# Altium footprint library Sheye-Connector.PcbLib: 137 footprints (part 2 of 9)
Each footprint in its own frame and in the unit in brackets; x right, y up, seen from the top. Pads: shape width x height; smd on the part's side, far side on the other; paste and mask are expansions set on the pad; w line width, h text height; cw(c..) or ccw(c..) is an arc to the next point about the centre after c.
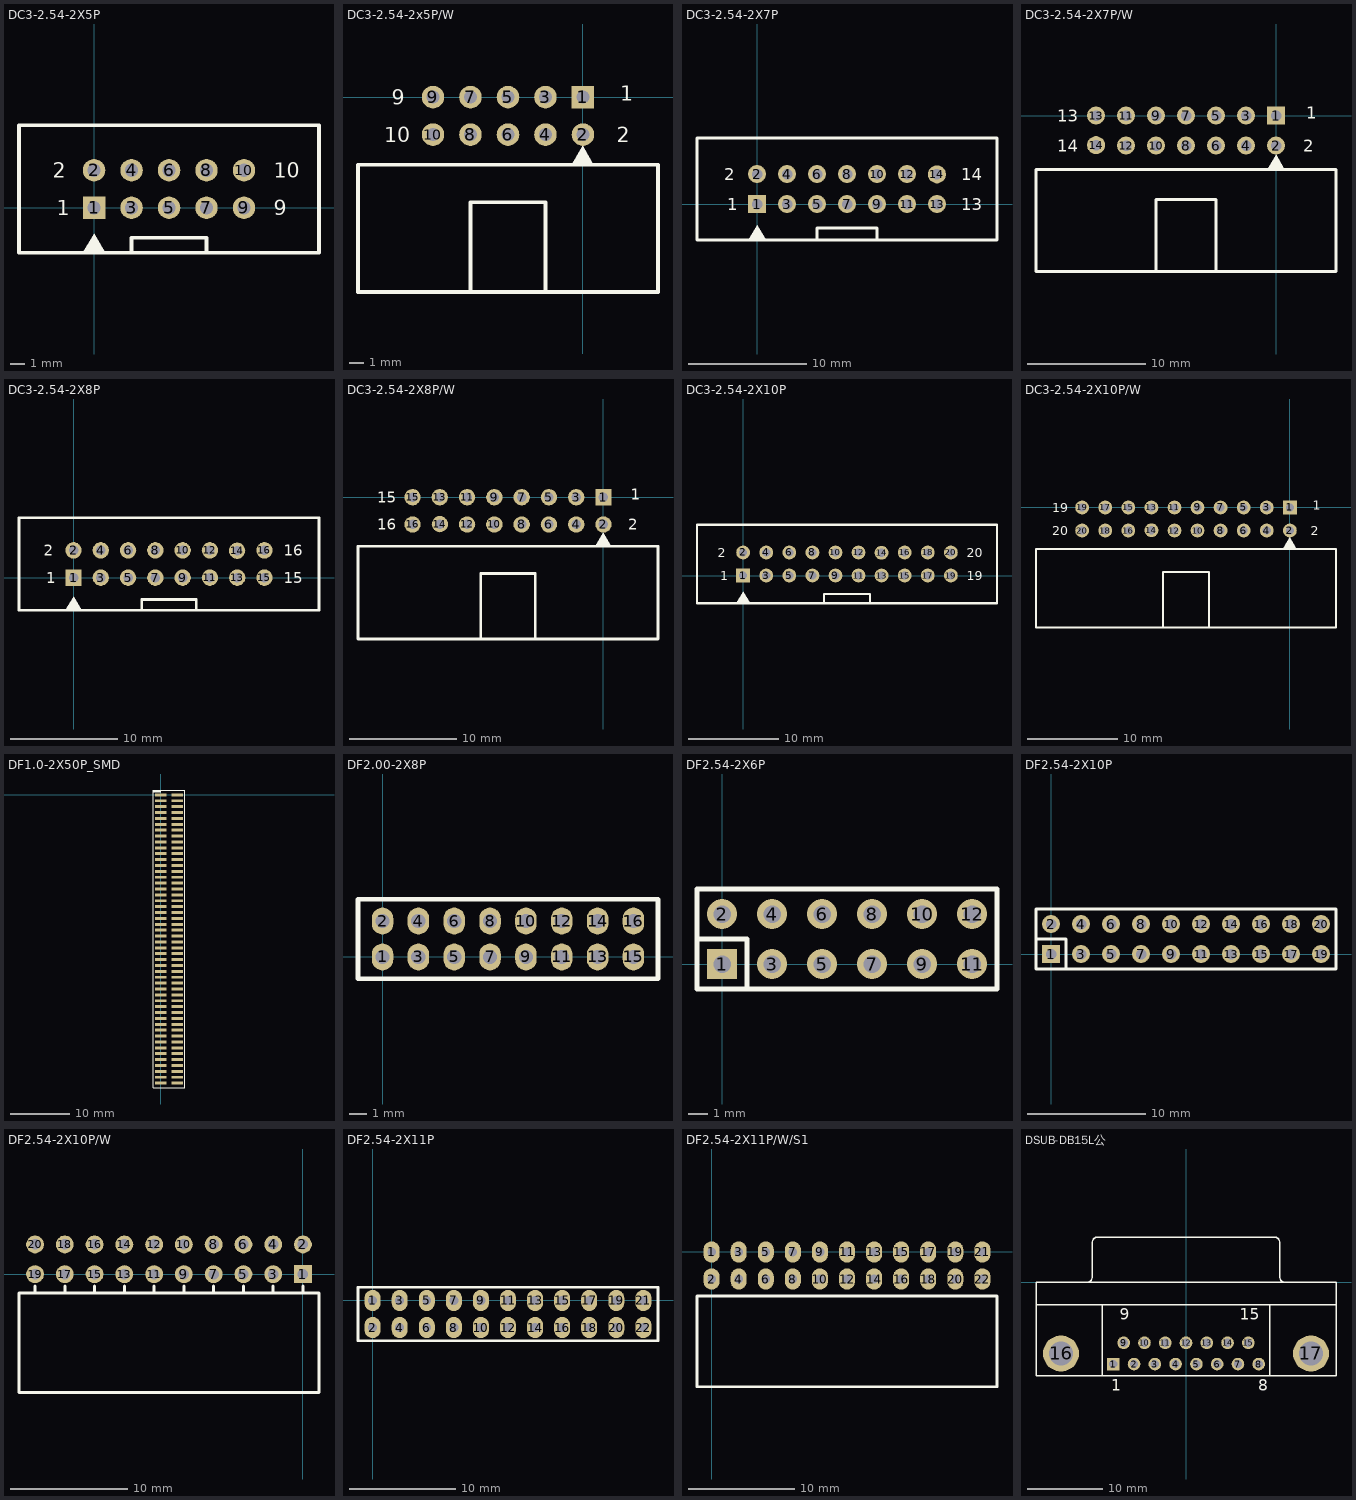
[diagram p1: the footprints below, top view; thin cyan lines are the x and y axes]

## DC3-2.54-2X5P [mil] "DC3-2.54-2x5P直脚"
pads (10):
  rect 60x60 hole 35: 1(0,0)
  round 60 hole 35: 2(0,100) 3(100,0) 4(100,100) 5(200,0) 6(200,100) 7(300,0) 8(300,100) 9(400,0) 10(400,100)
Top Overlay:
  region: -30,-120 30,-120 0,-70
  lines w10: 100,-120 100,-80 300,-80 300,-120 ; -200,-120 600,-120 600,220 -200,220 -200,-120
  text "10" at 480,80 h40
  text "1" at -100,-20 h40
  text "9" at 480,-20 h40
  text "2" at -110,80 h40

## DC3-2.54-2x5P/W [mil] "DC3-2.54-2x5P弯脚"
pads (10):
  rect 60x60 hole 35: 1(0,0)
  round 60 hole 35: 2(0,-100) 3(-100,0) 4(-100,-100) 5(-200,0) 6(-200,-100) 7(-300,0) 8(-300,-100) 9(-400,0) 10(-400,-100)
Top Overlay:
  region: -30,-180 25,-175 0,-130
  lines w10: -300,-520 -300,-280 -100,-280 -100,-520 ; -600,-520 200,-520 200,-180 -600,-180 -600,-520
  text "10" at -530,-120 h40
  text "1" at 100,-10 h40
  text "2" at 90,-120 h40
  text "9" at -510,-20 h40

## DC3-2.54-2X7P [mil] "DC3-2.54-2x7P直脚"
pads (14):
  rect 60x60 hole 35: 1(0,0)
  round 60 hole 35: 2(0,100) 3(100,0) 4(100,100) 5(200,0) 6(200,100) 7(300,0) 8(300,100) 9(400,0) 10(400,100) 11(500,0) 12(500,100) 13(600,0) 14(599.75,98.75)
Top Overlay:
  region: -30,-120 30,-120 0,-70
  lines w10: 200,-120 200,-80 400,-80 400,-120 ; -200,-120 -200,220 800,220 800,-120 -200,-120
  text "2" at -110,80 h40
  text "13" at 680,-20 h40
  text "1" at -100,-20 h40
  text "14" at 680,80 h40

## DC3-2.54-2X7P/W [mil] "DC3-2.54-2x7P弯脚"
pads (14):
  rect 60x60 hole 35: 1(0,0)
  round 60 hole 35: 2(0,-100) 3(-100,0) 4(-100,-100) 5(-200,0) 6(-200,-100) 7(-300,0) 8(-300,-100) 9(-400,0) 10(-400,-100) 11(-500,0) 12(-500,-100) 13(-600,0) 14(-599.75,-98.75)
Top Overlay:
  region: -30,-180 25,-175 0,-130
  lines w10: -400,-520 -400,-280 -200,-280 -200,-520 ; -800,-520 -800,-180 200,-180 200,-520 -800,-520
  text "13" at -730,-20 h40
  text "2" at 90,-120 h40
  text "1" at 100,-10 h40
  text "14" at -730,-120 h40

## DC3-2.54-2X8P [mil] "DC3-2.54-2x8P直脚"
pads (16):
  rect 60x60 hole 35: 1(0,0)
  round 60 hole 35: 2(0,100) 3(100,0) 4(100,100) 5(200,0) 6(200,100) 7(300,0) 8(300,100) 9(400,0) 10(400,100) 11(500,0) 12(500,100) 13(600,0) 14(599.75,98.75) 15(700,0) 16(700,100)
Top Overlay:
  region: -30,-120 30,-120 0,-70
  lines w10: 250,-120 250,-80 450,-80 450,-120 ; -200,-120 -200,220 900,220 900,-120 -200,-120
  text "2" at -110,80 h40
  text "15" at 770,-20 h40
  text "1" at -100,-20 h40
  text "16" at 770,80 h40

## DC3-2.54-2X8P/W [mil] "DC3-2.54-2x8P弯脚"
pads (16):
  rect 60x60 hole 35: 1(0,0)
  round 60 hole 35: 2(0,-100) 3(-100,0) 4(-100,-100) 5(-200,0) 6(-200,-100) 7(-300,0) 8(-300,-100) 9(-400,0) 10(-400,-100) 11(-500,0) 12(-500,-100) 13(-600,0) 14(-599.75,-98.75) 15(-700,0) 16(-700,-100)
Top Overlay:
  region: -30,-180 25,-175 0,-130
  lines w10: -450,-520 -450,-280 -250,-280 -250,-520 ; -900,-520 200,-520 200,-180 -900,-180 -900,-520
  text "16" at -830,-120 h40
  text "1" at 100,-10 h40
  text "2" at 90,-120 h40
  text "15" at -830,-20 h40

## DC3-2.54-2X10P [mil] "DC3-2.54-2x10P直脚"
pads (20):
  rect 60x60 hole 35: 1(0,0)
  round 60 hole 35: 2(0,100) 3(100,0) 4(100,100) 5(200,0) 6(200,100) 7(300,0) 8(300,100) 9(400,0) 10(400,100) 11(500,0) 12(500,100) 13(600,0) 14(599.75,98.75) 15(700,0) 16(700,100) 17(800,0) 18(800,100) 19(900,0) 20(900,100)
Top Overlay:
  region: -30,-120 30,-120 0,-70
  lines w10: 350,-120 350,-80 550,-80 550,-120 ; -200,-120 1100,-120 1100,220 -200,220 -200,-120
  text "20" at 970,80 h40
  text "1" at -100,-20 h40
  text "19" at 970,-20 h40
  text "2" at -110,80 h40

## DC3-2.54-2X10P/W [mil] "DC3-2.54-2x10P弯脚"
pads (20):
  rect 60x60 hole 35: 1(0,0)
  round 60 hole 35: 2(0,-100) 3(-100,0) 4(-100,-100) 5(-200,0) 6(-200,-100) 7(-300,0) 8(-300,-100) 9(-400,0) 10(-400,-100) 11(-500,0) 12(-500,-100) 13(-600,0) 14(-599.75,-98.75) 15(-700,0) 16(-700,-100) 17(-800,0) 18(-800,-100) 19(-900,0) 20(-900,-100)
Top Overlay:
  region: -30,-180 25,-175 0,-130
  lines w10: -550,-520 -550,-280 -350,-280 -350,-520 ; -1100,-520 200,-520 200,-180 -1100,-180 -1100,-520
  text "20" at -1030,-120 h40
  text "1" at 100,-10 h40
  text "2" at 90,-120 h40
  text "19" at -1030,-20 h40

## DF1.0-2X50P_SMD [mm]
pads (100):
  rect 2x0.5 smd paste+0: 1(0,0) 2(2.8,0) 3(0,-1) 4(2.8,-1) 5(0,-2) 6(2.8,-2) 7(0,-3) 8(2.8,-3) 9(0,-4) 10(2.8,-4) 11(0,-5) 12(2.8,-5) 13(0,-6) 14(2.8,-6) 15(0,-7) 16(2.8,-7) 17(0,-8) 18(2.8,-8) 19(0,-9) 20(2.8,-9) 21(0,-10) 22(2.8,-10) 23(0,-11) 24(2.8,-11) 25(0,-12) 26(2.8,-12) 27(0,-13) 28(2.8,-13) 29(0,-14) 30(2.8,-14) 31(0,-15) 32(2.8,-15) 33(0,-16) 34(2.8,-16) 35(0,-17) 36(2.8,-17) 37(0,-18) 38(2.8,-18) 39(0,-19) 40(2.8,-19) 41(0,-20) 42(2.8,-20) 43(0,-21) 44(2.8,-21) 45(0,-22) 46(2.8,-22) 47(0,-23) 48(2.8,-23) 49(0,-24) 50(2.8,-24) 51(0,-25) 52(2.8,-25) 53(0,-26) 54(2.8,-26) 55(0,-27) 56(2.8,-27) 57(0,-28) 58(2.8,-28) 59(0,-29) 60(2.8,-29) 61(0,-30) 62(2.8,-30) 63(0,-31) 64(2.8,-31) 65(0,-32) 66(2.8,-32) 67(0,-33) 68(2.8,-33) 69(0,-34) 70(2.8,-34) 71(0,-35) 72(2.8,-35) 73(0,-36) 74(2.8,-36) 75(0,-37) 76(2.8,-37) 77(0,-38) 78(2.8,-38) 79(0,-39) 80(2.8,-39) 81(0,-40) 82(2.8,-40) 83(0,-41) 84(2.8,-41) 85(0,-42) 86(2.8,-42) 87(0,-43) 88(2.8,-43) 89(0,-44) 90(2.8,-44) 91(0,-45) 92(2.8,-45) 93(0,-46) 94(2.8,-46) 95(0,-47) 96(2.8,-47) 97(0,-48) 98(2.8,-48) 99(0,-49) 100(2.8,-49)
Top Overlay:
  rectangle: -1.27,0.381 0,0.762
  lines w0.203: -1.27,-49.784 -1.27,0.762 4.064,0.762 4.064,-49.784 -1.27,-49.784
Drill Drawing:
  circle w0.025: c1.4,-0.5 r0.3
  circle w0.025: c1.4,-48.5 r0.3

## DF2.00-2X8P [mm] "DUAL_ROW_FEMALE_D2.00-8P"
height 4
pads (16):
  oval 1.2x1.5 hole 0.8: 1(0,0)
  oval 1.2x1.5 hole 0.8 mask+0.102: 2(0,2) 3(2,0) 4(2,2) 5(4,0) 6(4,2) 7(6,0) 8(6,2) 9(8,0) 10(8,2) 11(10,0) 12(10,2) 13(12,0) 14(12,2) 15(14,0) 16(14,2)
Top Overlay:
  lines w0.254: -1.37,-1.23 15.37,-1.23 15.37,3.23 -1.37,3.23 -1.37,-1.23
3D body: height 1, standoff -2, extent -0.406,-0.406 0.39,0.392
3D body: height 4, standoff 0, extent -1.27,-1.27 1.27,1.27
3D body: height 1, standoff -2, extent 1.594,-0.406 2.39,0.392
3D body: height 4, standoff 0, extent 0.73,-1.27 3.27,1.27
3D body: height 1, standoff -2, extent 3.594,-0.406 4.39,0.392
3D body: height 4, standoff 0, extent 2.73,-1.27 5.27,1.27
3D body: height 1, standoff -2, extent 5.594,-0.406 6.39,0.392
3D body: height 4, standoff 0, extent 4.73,-1.27 7.27,1.27
3D body: height 1, standoff -2, extent 7.594,-0.406 8.39,0.392
3D body: height 4, standoff 0, extent 6.73,-1.27 9.27,1.27
3D body: height 1, standoff -2, extent 9.594,-0.406 10.39,0.392
3D body: height 4, standoff 0, extent 8.73,-1.27 11.27,1.27
3D body: height 1, standoff -2, extent 11.594,-0.406 12.39,0.392
3D body: height 4, standoff 0, extent 10.73,-1.27 13.27,1.27
3D body: height 1, standoff -2, extent 13.594,-0.406 14.39,0.392
3D body: height 4, standoff 0, extent 12.73,-1.27 15.27,1.27
3D body: height 1, standoff -2, extent -0.406,1.594 0.39,2.392
3D body: height 4, standoff 0, extent -1.27,0.73 1.27,3.27
3D body: height 1, standoff -2, extent 1.594,1.594 2.39,2.392
3D body: height 4, standoff 0, extent 0.73,0.73 3.27,3.27
3D body: height 1, standoff -2, extent 3.594,1.594 4.39,2.392
3D body: height 4, standoff 0, extent 2.73,0.73 5.27,3.27
3D body: height 1, standoff -2, extent 5.594,1.594 6.39,2.392
3D body: height 4, standoff 0, extent 4.73,0.73 7.27,3.27
3D body: height 1, standoff -2, extent 7.594,1.594 8.39,2.392
3D body: height 4, standoff 0, extent 6.73,0.73 9.27,3.27
3D body: height 1, standoff -2, extent 9.594,1.594 10.39,2.392
3D body: height 4, standoff 0, extent 8.73,0.73 11.27,3.27
3D body: height 1, standoff -2, extent 11.594,1.594 12.39,2.392
3D body: height 4, standoff 0, extent 10.73,0.73 13.27,3.27
3D body: height 1, standoff -2, extent 13.594,1.594 14.39,2.392
3D body: height 4, standoff 0, extent 12.73,0.73 15.27,3.27
3D body: height 0.5, standoff 0, extent -1.27,-1.27 15.37,3.23

## DF2.54-2X6P [mil] "DUAL_ROW_FEMALE_R2.54-2X10P"
pads (12):
  rect 60x60 hole 35: 1(0,0)
  round 60 hole 35: 2(0,100) 3(100,0) 4(100,100) 5(200,0) 6(200,100) 7(300,0) 8(300,100) 9(400,0) 10(400,100) 11(500,0) 12(500,100)
Top Overlay:
  lines w10: -50,50 50,50 50,-50 ; -50,-50 550,-50 550,150 -50,150 -50,-50
3D body: height 19.68, standoff 0, extent -50,-50 550,150
3D body: height 334.65, standoff 0, extent 450,50 550,150
3D body: height 334.65, standoff 0, extent 350,50 450,150
3D body: height 334.65, standoff 0, extent 250,50 350,150
3D body: height 334.65, standoff 0, extent 150,50 250,150
3D body: height 334.65, standoff 0, extent 50,50 150,150
3D body: height 334.65, standoff 0, extent -50,50 50,150
3D body: height 334.65, standoff 0, extent 450,-50 550,50
3D body: height 334.65, standoff 0, extent 350,-50 450,50
3D body: height 334.65, standoff 0, extent 250,-50 350,50
3D body: height 334.65, standoff 0, extent 150,-50 250,50
3D body: height 334.65, standoff 0, extent 50,-50 150,50
3D body: height 334.65, standoff 0, extent -50,-50 50,50
3D body: height 39.37, standoff -78.74, extent -16,-16 15.37,15.43
3D body: height 39.37, standoff -78.74, extent -16,84 15.37,115.43
3D body: height 39.37, standoff -78.74, extent 84,84 115.37,115.43
3D body: height 39.37, standoff -78.74, extent 184,84 215.37,115.43
3D body: height 39.37, standoff -78.74, extent 284,84 315.37,115.43
3D body: height 39.37, standoff -78.74, extent 384,84 415.37,115.43
3D body: height 39.37, standoff -78.74, extent 484,84 515.37,115.43
3D body: height 39.37, standoff -78.74, extent 84,-16 115.37,15.43
3D body: height 39.37, standoff -78.74, extent 184,-16 215.37,15.43
3D body: height 39.37, standoff -78.74, extent 284,-16 315.37,15.43
3D body: height 39.37, standoff -78.74, extent 384,-16 415.37,15.43
3D body: height 39.37, standoff -78.74, extent 484,-16 515.37,15.43

## DF2.54-2X10P [mil] "SIP2.54-2x10P直插排母"
pads (20):
  rect 60x60 hole 35: 1(0,0)
  round 60 hole 35: 2(0,100) 3(100,0) 4(100,100) 5(200,0) 6(200,100) 7(300,0) 8(300,100) 9(400,0) 10(400,100) 11(500,0) 12(500,100) 13(600,0) 14(600,100) 15(700,0) 16(700,100) 17(800,0) 18(800,100) 19(900,0) 20(900,100)
Top Overlay:
  lines w10: -50,50 50,50 50,-50 ; -50,-50 -50,150 950,150 950,-50 -50,-50
3D body: height 19.68, standoff 0, extent -50,-50 950,150
3D body: height 334.65, standoff 0, extent 850,50 950,150
3D body: height 39.37, standoff -78.74, extent 884,84 915.37,115.43
3D body: height 334.65, standoff 0, extent 750,50 850,150
3D body: height 39.37, standoff -78.74, extent 784,84 815.37,115.43
3D body: height 334.65, standoff 0, extent 650,50 750,150
3D body: height 39.37, standoff -78.74, extent 684,84 715.37,115.43
3D body: height 334.65, standoff 0, extent 550,50 650,150
3D body: height 39.37, standoff -78.74, extent 584,84 615.37,115.43
3D body: height 334.65, standoff 0, extent 450,50 550,150
3D body: height 39.37, standoff -78.74, extent 484,84 515.37,115.43
3D body: height 334.65, standoff 0, extent 350,50 450,150
3D body: height 39.37, standoff -78.74, extent 384,84 415.37,115.43
3D body: height 334.65, standoff 0, extent 250,50 350,150
3D body: height 39.37, standoff -78.74, extent 284,84 315.37,115.43
3D body: height 334.65, standoff 0, extent 150,50 250,150
3D body: height 39.37, standoff -78.74, extent 184,84 215.37,115.43
3D body: height 334.65, standoff 0, extent 50,50 150,150
3D body: height 39.37, standoff -78.74, extent 84,84 115.37,115.43
3D body: height 334.65, standoff 0, extent -50,50 50,150
3D body: height 39.37, standoff -78.74, extent -16,84 15.37,115.43
3D body: height 334.65, standoff 0, extent 850,-50 950,50
3D body: height 39.37, standoff -78.74, extent 884,-16 915.37,15.43
3D body: height 334.65, standoff 0, extent 750,-50 850,50
3D body: height 39.37, standoff -78.74, extent 784,-16 815.37,15.43
3D body: height 334.65, standoff 0, extent 650,-50 750,50
3D body: height 39.37, standoff -78.74, extent 684,-16 715.37,15.43
3D body: height 334.65, standoff 0, extent 550,-50 650,50
3D body: height 39.37, standoff -78.74, extent 584,-16 615.37,15.43
3D body: height 334.65, standoff 0, extent 450,-50 550,50
3D body: height 39.37, standoff -78.74, extent 484,-16 515.37,15.43
3D body: height 334.65, standoff 0, extent 350,-50 450,50
3D body: height 39.37, standoff -78.74, extent 384,-16 415.37,15.43
3D body: height 334.65, standoff 0, extent 250,-50 350,50
3D body: height 39.37, standoff -78.74, extent 284,-16 315.37,15.43
3D body: height 334.65, standoff 0, extent 150,-50 250,50
3D body: height 39.37, standoff -78.74, extent 184,-16 215.37,15.43
3D body: height 334.65, standoff 0, extent 50,-50 150,50
3D body: height 39.37, standoff -78.74, extent 84,-16 115.37,15.43
3D body: height 334.65, standoff 0, extent -50,-50 50,50
3D body: height 39.37, standoff -78.74, extent -16,-16 15.37,15.43

## DF2.54-2X10P/W [mil] "DUAL_ROW_FEMALE_R2.54-2X10P"
pads (20):
  rect 60x60 hole 35: 1(0,0)
  round 60 hole 35: 2(0,100) 3(-100,0) 4(-100,100) 5(-200,0) 6(-200,100) 7(-300,0) 8(-300,100) 9(-400,0) 10(-400,100) 11(-500,0) 12(-500,100) 13(-600,0) 14(-600,100) 15(-700,0) 16(-700,100) 17(-800,0) 18(-800,100) 19(-900,0) 20(-900,100)
Top Overlay:
  lines w10: -900,-62.99 -900,-40 ; -800,-62.99 -800,-40 ; -700,-62.99 -700,-40 ; -600,-62.99 -600,-40 ; -500,-62.99 -500,-40 ; -400,-62.99 -400,-40 ; -300,-62.99 -300,-40 ; -200,-62.99 -200,-40 ; -100,-62.99 -100,-40 ; 0,-62.99 0,-40 ; -953.94,-397.64 -953.94,-62.99 53.94,-62.99 53.94,-397.64 -953.94,-397.64
3D body: height 120, standoff 80, extent -950,-400 50,-60
3D body: height 20, standoff 0, extent -950,-400 50,-60
3D body: height 200, standoff 180, extent -950,-400 50,-60
3D body: height 200, standoff 0, extent 30,-400 50,-60
3D body: height 200, standoff 0, extent -50,-400 -30,-60
3D body: height 200, standoff 0, extent -950,-80 50,-60
3D body: height 200, standoff 0, extent -950,-400 -930,-60
3D body: height 200, standoff 0, extent -870,-400 -850,-60
3D body: height 200, standoff 0, extent -850,-400 -830,-60
3D body: height 200, standoff 0, extent -770,-400 -750,-60
3D body: height 200, standoff 0, extent -750,-400 -730,-60
3D body: height 200, standoff 0, extent -670,-400 -650,-60
3D body: height 200, standoff 0, extent -650,-400 -630,-60
3D body: height 200, standoff 0, extent -570,-400 -550,-60
3D body: height 200, standoff 0, extent -550,-400 -530,-60
3D body: height 200, standoff 0, extent -470,-400 -450,-60
3D body: height 200, standoff 0, extent -450,-400 -430,-60
3D body: height 200, standoff 0, extent -370,-400 -350,-60
3D body: height 200, standoff 0, extent -350,-400 -330,-60
3D body: height 200, standoff 0, extent -270,-400 -250,-60
3D body: height 200, standoff 0, extent -250,-400 -230,-60
3D body: height 200, standoff 0, extent -170,-400 -150,-60
3D body: height 200, standoff 0, extent -150,-400 -130,-60
3D body: height 200, standoff 0, extent -70,-400 -50,-60
3D body: height 169.56, standoff 138.19, extent -915.72,-82.28 -884.28,100
3D body: height 153.94, standoff -78.74, extent -915.65,84.28 -884.28,115.72
3D body: height 69.56, standoff 38.19, extent -915.72,-100 -884.28,0
3D body: height 53.94, standoff -78.74, extent -915.65,-15.72 -884.28,15.72
3D body: height 53.94, standoff -78.74, extent -815.65,-15.72 -784.28,15.72
3D body: height 153.94, standoff -78.74, extent -815.65,84.28 -784.28,115.72
3D body: height 169.56, standoff 138.19, extent -815.72,-82.28 -784.28,100
3D body: height 53.94, standoff -78.74, extent -715.65,-15.72 -684.28,15.72
3D body: height 153.94, standoff -78.74, extent -715.65,84.28 -684.28,115.72
3D body: height 169.56, standoff 138.19, extent -715.72,-82.28 -684.28,100
3D body: height 53.94, standoff -78.74, extent -615.65,-15.72 -584.28,15.72
3D body: height 153.94, standoff -78.74, extent -615.65,84.28 -584.28,115.72
3D body: height 169.56, standoff 138.19, extent -615.72,-82.28 -584.28,100
3D body: height 53.94, standoff -78.74, extent -515.65,-15.72 -484.28,15.72
3D body: height 153.94, standoff -78.74, extent -515.65,84.28 -484.28,115.72
3D body: height 169.56, standoff 138.19, extent -515.72,-82.28 -484.28,100
3D body: height 53.94, standoff -78.74, extent -415.65,-15.72 -384.28,15.72
3D body: height 153.94, standoff -78.74, extent -415.65,84.28 -384.28,115.72
3D body: height 169.56, standoff 138.19, extent -415.72,-82.28 -384.28,100
3D body: height 53.94, standoff -78.74, extent -315.65,-15.72 -284.28,15.72
3D body: height 153.94, standoff -78.74, extent -315.65,84.28 -284.28,115.72
3D body: height 169.56, standoff 138.19, extent -315.72,-82.28 -284.28,100
3D body: height 53.94, standoff -78.74, extent -215.65,-15.72 -184.28,15.72
3D body: height 153.94, standoff -78.74, extent -215.65,84.28 -184.28,115.72
3D body: height 169.56, standoff 138.19, extent -215.72,-82.28 -184.28,100
3D body: height 53.94, standoff -78.74, extent -115.65,-15.72 -84.28,15.72
3D body: height 153.94, standoff -78.74, extent -115.65,84.28 -84.28,115.72
3D body: height 169.56, standoff 138.19, extent -115.72,-82.28 -84.28,100
3D body: height 53.94, standoff -78.74, extent -15.65,-15.72 15.72,15.72
3D body: height 153.94, standoff -78.74, extent -15.65,84.28 15.72,115.72
3D body: height 169.56, standoff 138.19, extent -15.72,-82.28 15.72,100
3D body: height 69.56, standoff 38.19, extent -815.72,-100 -784.28,0
3D body: height 69.56, standoff 38.19, extent -715.72,-100 -684.28,0
3D body: height 69.56, standoff 38.19, extent -615.72,-100 -584.28,0
3D body: height 69.56, standoff 38.19, extent -515.72,-100 -484.28,0
3D body: height 69.56, standoff 38.19, extent -415.72,-100 -384.28,0
3D body: height 69.56, standoff 38.19, extent -315.72,-100 -284.28,0
3D body: height 69.56, standoff 38.19, extent -215.72,-100 -184.28,0
3D body: height 69.56, standoff 38.19, extent -115.72,-100 -84.28,0
3D body: height 69.56, standoff 38.19, extent -15.72,-100 15.72,0

## DF2.54-2X11P [mm] "DUAL_ROW_FEMALE_D2.54-11P"
pads (22):
  oval 1.5x2 hole 0.838: 1(0,0) 2(0,-2.54) 3(2.54,0) 4(2.54,-2.54) 5(5.08,0) 6(5.08,-2.54) 7(7.62,0) 8(7.62,-2.54) 9(10.16,0) 10(10.16,-2.54) 11(12.7,0) 12(12.7,-2.54) 13(15.24,0) 14(15.24,-2.54) 15(17.78,0) 16(17.78,-2.54) 17(20.32,0) 18(20.32,-2.54) 19(22.86,0) 20(22.86,-2.54) 21(25.4,0) 22(25.4,-2.54)
Top Overlay:
  lines w0.254: -1.37,-3.77 -1.37,1.23 26.77,1.23 26.77,-3.77 -1.37,-3.77
3D body: height 1, standoff -2, extent 24.994,-2.946 25.79,-2.148
3D body: height 8.5, standoff 0, extent 24.13,-3.81 26.67,-1.27
3D body: height 1, standoff -2, extent 24.994,-0.406 25.79,0.392
3D body: height 8.5, standoff 0, extent 24.13,-1.27 26.67,1.27
3D body: height 0.5, standoff 0, extent -1.27,-3.81 26.67,1.27
3D body: height 8.5, standoff 0, extent 21.59,-1.27 24.13,1.27
3D body: height 1, standoff -2, extent 22.454,-0.406 23.25,0.392
3D body: height 8.5, standoff 0, extent 19.05,-1.27 21.59,1.27
3D body: height 1, standoff -2, extent 19.914,-0.406 20.71,0.392
3D body: height 8.5, standoff 0, extent 16.51,-1.27 19.05,1.27
3D body: height 1, standoff -2, extent 17.374,-0.406 18.17,0.392
3D body: height 8.5, standoff 0, extent 13.97,-1.27 16.51,1.27
3D body: height 1, standoff -2, extent 14.834,-0.406 15.63,0.392
3D body: height 8.5, standoff 0, extent 11.43,-1.27 13.97,1.27
3D body: height 1, standoff -2, extent 12.294,-0.406 13.09,0.392
3D body: height 8.5, standoff 0, extent 8.89,-1.27 11.43,1.27
3D body: height 1, standoff -2, extent 9.754,-0.406 10.55,0.392
3D body: height 8.5, standoff 0, extent 6.35,-1.27 8.89,1.27
3D body: height 1, standoff -2, extent 7.214,-0.406 8.01,0.392
3D body: height 8.5, standoff 0, extent 3.81,-1.27 6.35,1.27
3D body: height 1, standoff -2, extent 4.674,-0.406 5.47,0.392
3D body: height 8.5, standoff 0, extent 1.27,-1.27 3.81,1.27
3D body: height 1, standoff -2, extent 2.134,-0.406 2.93,0.392
3D body: height 8.5, standoff 0, extent -1.27,-1.27 1.27,1.27
3D body: height 1, standoff -2, extent -0.406,-0.406 0.39,0.392
3D body: height 8.5, standoff 0, extent 21.59,-3.81 24.13,-1.27
3D body: height 1, standoff -2, extent 22.454,-2.946 23.25,-2.148
3D body: height 8.5, standoff 0, extent 19.05,-3.81 21.59,-1.27
3D body: height 1, standoff -2, extent 19.914,-2.946 20.71,-2.148
3D body: height 8.5, standoff 0, extent 16.51,-3.81 19.05,-1.27
3D body: height 1, standoff -2, extent 17.374,-2.946 18.17,-2.148
3D body: height 8.5, standoff 0, extent 13.97,-3.81 16.51,-1.27
3D body: height 1, standoff -2, extent 14.834,-2.946 15.63,-2.148
3D body: height 8.5, standoff 0, extent 11.43,-3.81 13.97,-1.27
3D body: height 1, standoff -2, extent 12.294,-2.946 13.09,-2.148
3D body: height 8.5, standoff 0, extent 8.89,-3.81 11.43,-1.27
3D body: height 1, standoff -2, extent 9.754,-2.946 10.55,-2.148
3D body: height 8.5, standoff 0, extent 6.35,-3.81 8.89,-1.27
3D body: height 1, standoff -2, extent 7.214,-2.946 8.01,-2.148
3D body: height 8.5, standoff 0, extent 3.81,-3.81 6.35,-1.27
3D body: height 1, standoff -2, extent 4.674,-2.946 5.47,-2.148
3D body: height 8.5, standoff 0, extent 1.27,-3.81 3.81,-1.27
3D body: height 1, standoff -2, extent 2.134,-2.946 2.93,-2.148
3D body: height 8.5, standoff 0, extent -1.27,-3.81 1.27,-1.27
3D body: height 1, standoff -2, extent -0.406,-2.946 0.39,-2.148

## DF2.54-2X11P/W/S1 [mm] "DUAL_ROW_FEMALE_R2.54-11P"
pads (22):
  oval 1.5x2 hole 0.813: 1(0,0) 2(0,-2.54) 3(2.54,0) 4(2.54,-2.54) 5(5.08,0) 6(5.08,-2.54) 7(7.62,0) 8(7.62,-2.54) 9(10.16,0) 10(10.16,-2.54) 11(12.7,0) 12(12.7,-2.54) 13(15.24,0) 14(15.24,-2.54) 15(17.78,0) 16(17.78,-2.54) 17(20.32,0) 18(20.32,-2.54) 19(22.86,0) 20(22.86,-2.54) 21(25.4,0) 22(25.4,-2.54)
Top Overlay:
  lines w0.254: -1.37,-12.64 26.77,-12.64 26.77,-4.14 -1.37,-4.14 -1.37,-12.64
3D body: height 1.77, standoff 0.97, extent 25.001,-5.08 25.799,-2.54
3D body: height 4.31, standoff 3.51, extent 25.001,-4.63 25.799,0
3D body: height 3.91, standoff -2, extent 25.002,-0.399 25.799,0.399
3D body: height 1.37, standoff -2, extent 25.002,-2.939 25.799,-2.141
3D body: height 5.08, standoff 0, extent 24.13,-12.7 24.638,-4.064
3D body: height 5.08, standoff 0, extent 26.162,-12.7 26.67,-4.064
3D body: height 3.05, standoff 2.03, extent -1.27,-12.7 26.67,-4.064
3D body: height 0.51, standoff 0, extent -1.27,-12.7 26.67,-4.064
3D body: height 5.08, standoff 4.57, extent -1.27,-12.7 26.67,-4.064
3D body: height 5.08, standoff 0, extent 23.622,-12.7 24.13,-4.064
3D body: height 5.08, standoff 0, extent 21.59,-12.7 22.098,-4.064
3D body: height 5.08, standoff 0, extent -1.27,-4.572 26.67,-4.064
3D body: height 5.08, standoff 0, extent -1.27,-12.7 -0.762,-4.064
3D body: height 5.08, standoff 0, extent 0.762,-12.7 1.27,-4.064
3D body: height 5.08, standoff 0, extent 1.27,-12.7 1.778,-4.064
3D body: height 5.08, standoff 0, extent 3.302,-12.7 3.81,-4.064
3D body: height 5.08, standoff 0, extent 3.81,-12.7 4.318,-4.064
3D body: height 5.08, standoff 0, extent 5.842,-12.7 6.35,-4.064
3D body: height 5.08, standoff 0, extent 6.35,-12.7 6.858,-4.064
3D body: height 5.08, standoff 0, extent 8.382,-12.7 8.89,-4.064
3D body: height 5.08, standoff 0, extent 8.89,-12.7 9.398,-4.064
3D body: height 5.08, standoff 0, extent 10.922,-12.7 11.43,-4.064
3D body: height 5.08, standoff 0, extent 11.43,-12.7 11.938,-4.064
3D body: height 5.08, standoff 0, extent 13.462,-12.7 13.97,-4.064
3D body: height 5.08, standoff 0, extent 13.97,-12.7 14.478,-4.064
3D body: height 5.08, standoff 0, extent 16.002,-12.7 16.51,-4.064
3D body: height 5.08, standoff 0, extent 16.51,-12.7 17.018,-4.064
3D body: height 5.08, standoff 0, extent 18.542,-12.7 19.05,-4.064
3D body: height 5.08, standoff 0, extent 19.05,-12.7 19.558,-4.064
3D body: height 5.08, standoff 0, extent 21.082,-12.7 21.59,-4.064
3D body: height 4.31, standoff 3.51, extent -0.399,-4.63 0.399,0
3D body: height 3.91, standoff -2, extent -0.398,-0.399 0.399,0.399
3D body: height 1.77, standoff 0.97, extent -0.399,-5.08 0.399,-2.54
3D body: height 1.37, standoff -2, extent -0.398,-2.939 0.399,-2.141
3D body: height 1.37, standoff -2, extent 2.142,-2.939 2.939,-2.141
3D body: height 3.91, standoff -2, extent 2.142,-0.399 2.939,0.399
3D body: height 4.31, standoff 3.51, extent 2.141,-4.63 2.939,0
3D body: height 1.37, standoff -2, extent 4.682,-2.939 5.479,-2.141
3D body: height 3.91, standoff -2, extent 4.682,-0.399 5.479,0.399
3D body: height 4.31, standoff 3.51, extent 4.681,-4.63 5.479,0
3D body: height 1.37, standoff -2, extent 7.222,-2.939 8.019,-2.141
3D body: height 3.91, standoff -2, extent 7.222,-0.399 8.019,0.399
3D body: height 4.31, standoff 3.51, extent 7.221,-4.63 8.019,0
3D body: height 1.37, standoff -2, extent 9.762,-2.939 10.559,-2.141
3D body: height 3.91, standoff -2, extent 9.762,-0.399 10.559,0.399
3D body: height 4.31, standoff 3.51, extent 9.761,-4.63 10.559,0
3D body: height 1.37, standoff -2, extent 12.302,-2.939 13.099,-2.141
3D body: height 3.91, standoff -2, extent 12.302,-0.399 13.099,0.399
3D body: height 4.31, standoff 3.51, extent 12.301,-4.63 13.099,0
3D body: height 1.37, standoff -2, extent 14.842,-2.939 15.639,-2.141
3D body: height 3.91, standoff -2, extent 14.842,-0.399 15.639,0.399
3D body: height 4.31, standoff 3.51, extent 14.841,-4.63 15.639,0
3D body: height 1.37, standoff -2, extent 17.382,-2.939 18.179,-2.141
3D body: height 3.91, standoff -2, extent 17.382,-0.399 18.179,0.399
3D body: height 4.31, standoff 3.51, extent 17.381,-4.63 18.179,0
3D body: height 1.37, standoff -2, extent 19.922,-2.939 20.719,-2.141
3D body: height 3.91, standoff -2, extent 19.922,-0.399 20.719,0.399
3D body: height 4.31, standoff 3.51, extent 19.921,-4.63 20.719,0
3D body: height 1.37, standoff -2, extent 22.462,-2.939 23.259,-2.141
3D body: height 3.91, standoff -2, extent 22.462,-0.399 23.259,0.399
3D body: height 4.31, standoff 3.51, extent 22.461,-4.63 23.259,0
3D body: height 1.77, standoff 0.97, extent 2.141,-5.08 2.939,-2.54
3D body: height 1.77, standoff 0.97, extent 4.681,-5.08 5.479,-2.54
3D body: height 1.77, standoff 0.97, extent 7.221,-5.08 8.019,-2.54
3D body: height 1.77, standoff 0.97, extent 9.761,-5.08 10.559,-2.54
3D body: height 1.77, standoff 0.97, extent 12.301,-5.08 13.099,-2.54
3D body: height 1.77, standoff 0.97, extent 14.841,-5.08 15.639,-2.54
3D body: height 1.77, standoff 0.97, extent 17.381,-5.08 18.179,-2.54
3D body: height 1.77, standoff 0.97, extent 19.921,-5.08 20.719,-2.54
3D body: height 1.77, standoff 0.97, extent 22.461,-5.08 23.259,-2.54

## DSUB-DB15L公 [mm] "Connector; D Subminiature; 15 Position; Right Angle; Pitch 1.385 mm"
height 12.75
pads (17):
  rect 1.69x1.69 hole 1.09: 1(-9.695,-10.92)
  round 1.69 hole 1.09: 2(-6.925,-10.92) 3(-4.155,-10.92) 4(-1.385,-10.92) 5(1.385,-10.92) 6(4.155,-10.92) 7(6.925,-10.92) 8(9.695,-10.92) 9(-8.31,-8.08) 10(-5.54,-8.08) 11(-2.77,-8.08) 12(0,-8.08) 13(2.77,-8.08) 14(5.54,-8.08) 15(8.31,-8.08)
  round 4.8 hole 3.18: 16(-16.66,-9.5) 17(16.66,-9.5)
Top Overlay:
  lines w0.2: -20,-3 20,-3 ; -13.195,0.005 ccw(c-13.195,0.7) -12.5,0.7 -12.5,5.3 ; -12.495,5.305 cw(c-11.8,5.305) -11.8,6 11.8,6 cw(c11.8,5.305) 12.495,5.305 ; -11.14,-12.5 -11.14,-3 ; 11.14,-12.5 11.14,-3 ; 12.5,5.3 12.5,0.7 ccw(c13.195,0.7) 13.195,0.005 ; -20,-12.5 20,-12.5 20,0 -20,0 -20,-12.5
  text "9" at -8.81,-4.975 h1.5
  text "15" at 7.185,-4.975 h1.5
  text "8" at 9.652,-14.475 h1.5
  text "1" at -9.945,-14.475 h1.5